# Altium footprint library toshiba-package.PcbLib: 3 footprints
Each footprint in its own frame and in the unit in brackets; x right, y up, seen from the top. Pads: shape width x height; smd on the part's side, far side on the other; paste and mask are expansions set on the pad; w line width, h text height; cw(c..) or ccw(c..) is an arc to the next point about the centre after c.
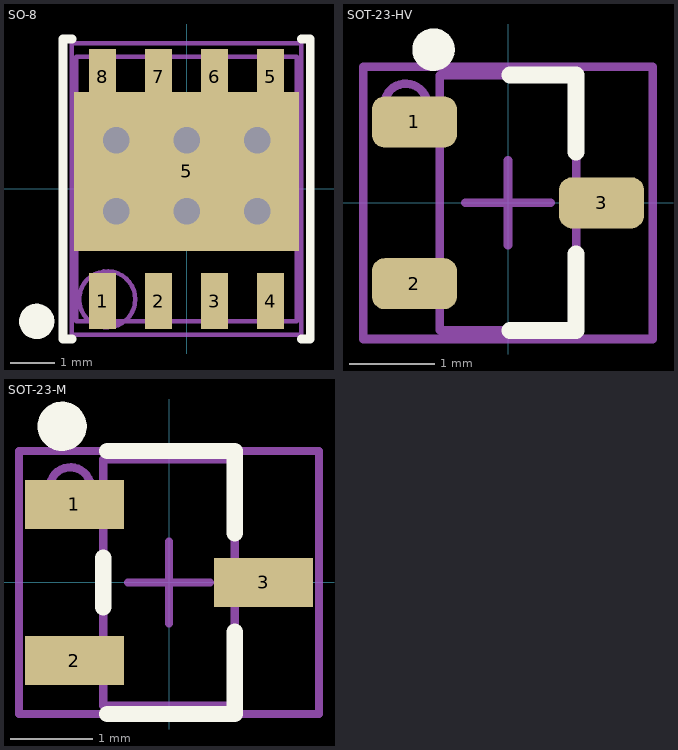
[diagram p0: the footprints below, top view; thin cyan lines are the x and y axes]

## SO-8 [mm] "8-Leads, Body 5.0x6.0mm (max), Pitch 1.27mm, IPC Medium Density"
height 0.95
pads (9):
  rect 0.61x1.27 smd: 1(-1.905,-2.54) 2(-0.635,-2.54) 3(0.635,-2.54) 4(1.905,-2.54) 5(1.905,2.54) 6(0.635,2.54) 7(-0.635,2.54) 8(-1.905,2.54)
  rect 5.1x3.6 smd: 5(0,0.4)
via 1.6,-0.5 diameter 1 hole 0.6
via 1.6,1.1 diameter 1 hole 0.6
via 0,1.1 diameter 1 hole 0.6
via 0,-0.5 diameter 1 hole 0.6
via -1.6,-0.5 diameter 1 hole 0.6
via -1.6,1.1 diameter 1 hole 0.6
Top Overlay:
  circle w0.4: c-3.4,-3 r0.2
  lines w0.2: -2.6,-3.4 -2.8,-3.4 -2.8,3.4 -2.6,3.4 ; 2.6,-3.4 2.8,-3.4 2.8,3.4 2.6,3.4
Mechanical 13:
  lines w0.1: -0.5,0 0.5,0 ; 0,-0.5 0,0.5 ; -2.5,-3 2.5,-3 2.5,3 -2.5,3 -2.5,-3
Mechanical 15:
  circle w0.1: c-1.8,-2.5 r0.636
  lines w0.1: -2.6,-3.3 2.6,-3.3 2.6,3.3 -2.6,3.3 -2.6,-3.3
  text ".Designator" at -2.54,0 h0.5
3D body: height 1, standoff 0, extent -2.5,-3.001 2.5,3.001

## SOT-23-HV [mm] "SOT23, 3-Leads, Body 3.0x2.8mm (max), Pitch 0.95mm, IPC High Density"
height 1.4
pads (3):
  rrect50% 1x0.6 smd: 1(-1.1,0.95) 2(-1.1,-0.95) 3(1.1,0)
Top Overlay:
  circle w0.25: c-0.875,1.8 r0.125
  lines w0.2: 0.025,-1.5 0.8,-1.5 0.8,-0.6 ; 0.025,1.5 0.8,1.5 0.8,0.6
Mechanical 13:
  lines w0.1: -0.5,0 0.5,0 ; 0,-0.5 0,0.5 ; -0.8,-1.5 0.8,-1.5 0.8,1.5 -0.8,1.5 -0.8,-1.5
Mechanical 15:
  circle w0.1: c-1.201,1.15 r0.251
  lines w0.1: -1.7,-1.6 1.7,-1.6 1.7,1.6 -1.7,1.6 -1.7,-1.6
  text ".Designator" at -0.2,1.325 h0.5
3D body: height 1.02, standoff 0.02, extent -1.17,-1.46 1.17,1.46

## SOT-23-M [mm] "SOT23, 3-Leads, Body 3.0x2.8mm (max), Pitch 0.95mm, Medium Density"
height 1.4
pads (3):
  rect 1.2x0.6 smd: 1(-1.15,0.95) 2(-1.15,-0.95) 3(1.15,0)
Top Overlay:
  circle w0.3: c-1.3,1.9 r0.15
  lines w0.2: -0.8,-0.3 -0.8,0.3 ; -0.75,-1.6 0.8,-1.6 0.8,-0.6 ; -0.75,1.6 0.8,1.6 0.8,0.6
Mechanical 13:
  lines w0.1: -0.5,0 0.5,0 ; 0,-0.5 0,0.5 ; -0.8,-1.5 0.8,-1.5 0.8,1.5 -0.8,1.5 -0.8,-1.5
Mechanical 15:
  circle w0.1: c-1.201,1.15 r0.251
  lines w0.1: -1.825,-1.6 1.825,-1.6 1.825,1.6 -1.825,1.6 -1.825,-1.6
  text ".Designator" at -0.2,1.325 h0.5
3D body: height 1.02, standoff 0.02, extent -1.17,-1.46 1.17,1.46